# Altium integrated library LM7818__TO-252.IntLib: 1 symbol
Pins are listed as number, name and electrical type; pins without a type are passive.

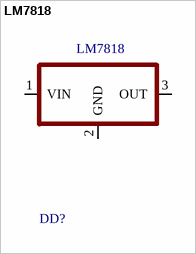
[diagram p0: symbol LM7818]

## LM7818
designator DD?
footprint TO-252
pins: 1 VIN, 2 GND, 3 OUT